# EAGLE library part EDA-003* (library mita-akiba)
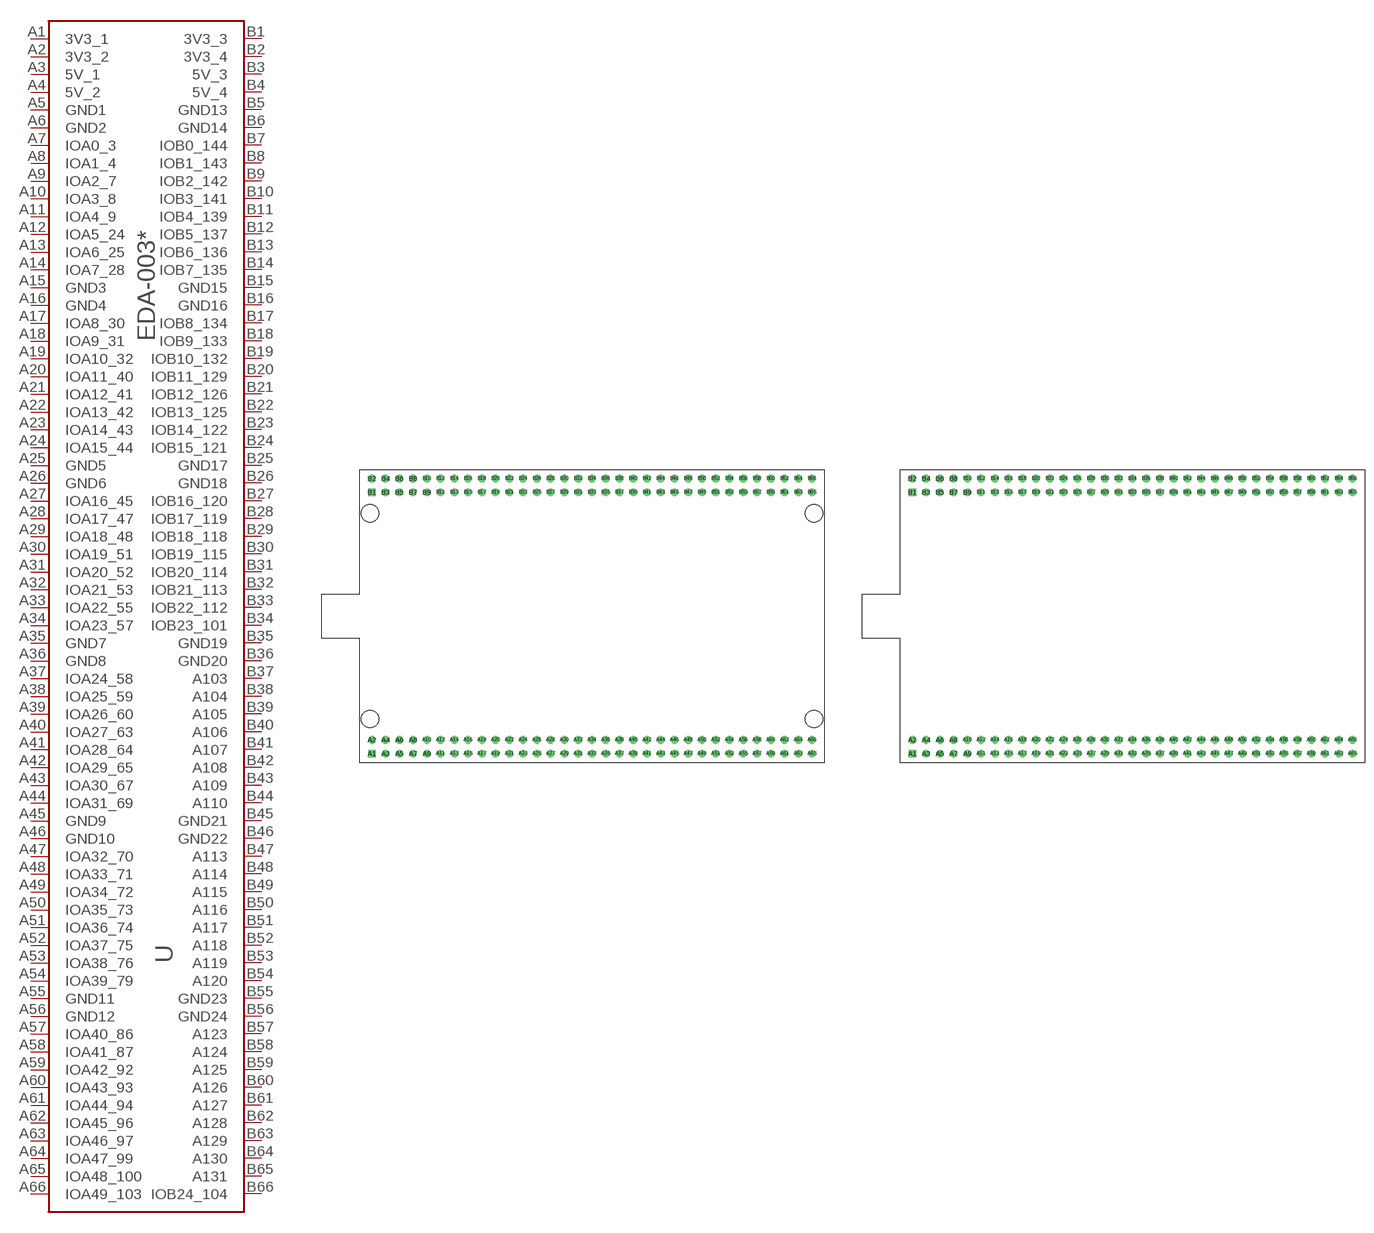
[diagram p41: symbol with the pads of EDA-003; footprints EDA-003, EDA-003NH]

Designator prefix -

## EDA-003  [EDA-003]
A1  3V3_1
A2  3V3_2
A3  5V_1
A4  5V_2
A5  GND1
A6  GND2
A7  IOA0_3
A8  IOA1_4
A9  IOA2_7
A10  IOA3_8
A11  IOA4_9
A12  IOA5_24
A13  IOA6_25
A14  IOA7_28
A15  GND3
A16  GND4
A17  IOA8_30
A18  IOA9_31
A19  IOA10_32
A20  IOA11_40
A21  IOA12_41
A22  IOA13_42
A23  IOA14_43
A24  IOA15_44
A25  GND5
A26  GND6
A27  IOA16_45
A28  IOA17_47
A29  IOA18_48
A30  IOA19_51
A31  IOA20_52
A32  IOA21_53
A33  IOA22_55
A34  IOA23_57
A35  GND7
A36  GND8
A37  IOA24_58
A38  IOA25_59
A39  IOA26_60
A40  IOA27_63
A41  IOA28_64
A42  IOA29_65
A43  IOA30_67
A44  IOA31_69
A45  GND9
A46  GND10
A47  IOA32_70
A48  IOA33_71
A49  IOA34_72
A50  IOA35_73
A51  IOA36_74
A52  IOA37_75
A53  IOA38_76
A54  IOA39_79
A55  GND11
A56  GND12
A57  IOA40_86
A58  IOA41_87
A59  IOA42_92
A60  IOA43_93
A61  IOA44_94
A62  IOA45_96
A63  IOA46_97
A64  IOA47_99
A65  IOA48_100
A66  IOA49_103
B1  3V3_3
B2  3V3_4
B3  5V_3
B4  5V_4
B5  GND13
B6  GND14
B7  IOB0_144
B8  IOB1_143
B9  IOB2_142
B10  IOB3_141
B11  IOB4_139
B12  IOB5_137
B13  IOB6_136
B14  IOB7_135
B15  GND15
B16  GND16
B17  IOB8_134
B18  IOB9_133
B19  IOB10_132
B20  IOB11_129
B21  IOB12_126
B22  IOB13_125
B23  IOB14_122
B24  IOB15_121
B25  GND17
B26  GND18
B27  IOB16_120
B28  IOB17_119
B29  IOB18_118
B30  IOB19_115
B31  IOB20_114
B32  IOB21_113
B33  IOB22_112
B34  IOB23_101
B35  GND19
B36  GND20
B37  A103
B38  A104
B39  A105
B40  A106
B41  A107
B42  A108
B43  A109
B44  A110
B45  GND21
B46  GND22
B47  A113
B48  A114
B49  A115
B50  A116
B51  A117
B52  A118
B53  A119
B54  A120
B55  GND23
B56  GND24
B57  A123
B58  A124
B59  A125
B60  A126
B61  A127
B62  A128
B63  A129
B64  A130
B65  A131
B66  IOB24_104

## EDA-003NH  [EDA-003NH]
Pads as for EDA-003

## Footprint EDA-003 (pad centres in mm)
drill 0.9 square: A1 -40.64,-25.4; B1 -40.64,22.86
drill 0.9: A2 -40.64,-22.86; A3 -38.1,-25.4; A4 -38.1,-22.86; A5 -35.56,-25.4; A6 -35.56,-22.86; A7 -33.02,-25.4; A8 -33.02,-22.86; A9 -30.48,-25.4; A10 -30.48,-22.86; A11 -27.94,-25.4; A12 -27.94,-22.86; A13 -25.4,-25.4; A14 -25.4,-22.86; A15 -22.86,-25.4; A16 -22.86,-22.86; A17 -20.32,-25.4; A18 -20.32,-22.86; A19 -17.78,-25.4; A20 -17.78,-22.86; A21 -15.24,-25.4; A22 -15.24,-22.86; A23 -12.7,-25.4; A24 -12.7,-22.86; A25 -10.16,-25.4; A26 -10.16,-22.86; A27 -7.62,-25.4; A28 -7.62,-22.86; A29 -5.08,-25.4; A30 -5.08,-22.86; A31 -2.54,-25.4; A32 -2.54,-22.86; A33 0,-25.4; A34 0,-22.86; A35 2.54,-25.4; A36 2.54,-22.86; A37 5.08,-25.4; A38 5.08,-22.86; A39 7.62,-25.4; A40 7.62,-22.86; A41 10.16,-25.4; A42 10.16,-22.86; A43 12.7,-25.4; A44 12.7,-22.86; A45 15.24,-25.4; A46 15.24,-22.86; A47 17.78,-25.4; A48 17.78,-22.86; A49 20.32,-25.4; A50 20.32,-22.86; A51 22.86,-25.4; A52 22.86,-22.86; A53 25.4,-25.4; A54 25.4,-22.86; A55 27.94,-25.4; A56 27.94,-22.86; A57 30.48,-25.4; A58 30.48,-22.86; A59 33.02,-25.4; A60 33.02,-22.86; A61 35.56,-25.4; A62 35.56,-22.86; A63 38.1,-25.4; A64 38.1,-22.86; A65 40.64,-25.4; A66 40.64,-22.86; B2 -40.64,25.4; B3 -38.1,22.86; B4 -38.1,25.4; B5 -35.56,22.86; B6 -35.56,25.4; B7 -33.02,22.86; B8 -33.02,25.4; B9 -30.48,22.86; B10 -30.48,25.4; B11 -27.94,22.86; B12 -27.94,25.4; B13 -25.4,22.86; B14 -25.4,25.4; B15 -22.86,22.86; B16 -22.86,25.4; B17 -20.32,22.86; B18 -20.32,25.4; B19 -17.78,22.86; B20 -17.78,25.4; B21 -15.24,22.86; B22 -15.24,25.4; B23 -12.7,22.86; B24 -12.7,25.4; B25 -10.16,22.86; B26 -10.16,25.4; B27 -7.62,22.86; B28 -7.62,25.4; B29 -5.08,22.86; B30 -5.08,25.4; B31 -2.54,22.86; B32 -2.54,25.4; B33 0,22.86; B34 0,25.4; B35 2.54,22.86; B36 2.54,25.4; B37 5.08,22.86; B38 5.08,25.4; B39 7.62,22.86; B40 7.62,25.4; B41 10.16,22.86; B42 10.16,25.4; B43 12.7,22.86; B44 12.7,25.4; B45 15.24,22.86; B46 15.24,25.4; B47 17.78,22.86; B48 17.78,25.4; B49 20.32,22.86; B50 20.32,25.4; B51 22.86,22.86; B52 22.86,25.4; B53 25.4,22.86; B54 25.4,25.4; B55 27.94,22.86; B56 27.94,25.4; B57 30.48,22.86; B58 30.48,25.4; B59 33.02,22.86; B60 33.02,25.4; B61 35.56,22.86; B62 35.56,25.4; B63 38.1,22.86; B64 38.1,25.4; B65 40.64,22.86; B66 40.64,25.4
hole 3.2 at -41,19
hole 3.2 at -41,-19
hole 3.2 at 41,19
hole 3.2 at 41,-19

## Footprint EDA-003NH (pad centres in mm)
drill 0.9 square: A1 -40.64,-25.4; B1 -40.64,22.86
drill 0.9: A2 -40.64,-22.86; A3 -38.1,-25.4; A4 -38.1,-22.86; A5 -35.56,-25.4; A6 -35.56,-22.86; A7 -33.02,-25.4; A8 -33.02,-22.86; A9 -30.48,-25.4; A10 -30.48,-22.86; A11 -27.94,-25.4; A12 -27.94,-22.86; A13 -25.4,-25.4; A14 -25.4,-22.86; A15 -22.86,-25.4; A16 -22.86,-22.86; A17 -20.32,-25.4; A18 -20.32,-22.86; A19 -17.78,-25.4; A20 -17.78,-22.86; A21 -15.24,-25.4; A22 -15.24,-22.86; A23 -12.7,-25.4; A24 -12.7,-22.86; A25 -10.16,-25.4; A26 -10.16,-22.86; A27 -7.62,-25.4; A28 -7.62,-22.86; A29 -5.08,-25.4; A30 -5.08,-22.86; A31 -2.54,-25.4; A32 -2.54,-22.86; A33 0,-25.4; A34 0,-22.86; A35 2.54,-25.4; A36 2.54,-22.86; A37 5.08,-25.4; A38 5.08,-22.86; A39 7.62,-25.4; A40 7.62,-22.86; A41 10.16,-25.4; A42 10.16,-22.86; A43 12.7,-25.4; A44 12.7,-22.86; A45 15.24,-25.4; A46 15.24,-22.86; A47 17.78,-25.4; A48 17.78,-22.86; A49 20.32,-25.4; A50 20.32,-22.86; A51 22.86,-25.4; A52 22.86,-22.86; A53 25.4,-25.4; A54 25.4,-22.86; A55 27.94,-25.4; A56 27.94,-22.86; A57 30.48,-25.4; A58 30.48,-22.86; A59 33.02,-25.4; A60 33.02,-22.86; A61 35.56,-25.4; A62 35.56,-22.86; A63 38.1,-25.4; A64 38.1,-22.86; A65 40.64,-25.4; A66 40.64,-22.86; B2 -40.64,25.4; B3 -38.1,22.86; B4 -38.1,25.4; B5 -35.56,22.86; B6 -35.56,25.4; B7 -33.02,22.86; B8 -33.02,25.4; B9 -30.48,22.86; B10 -30.48,25.4; B11 -27.94,22.86; B12 -27.94,25.4; B13 -25.4,22.86; B14 -25.4,25.4; B15 -22.86,22.86; B16 -22.86,25.4; B17 -20.32,22.86; B18 -20.32,25.4; B19 -17.78,22.86; B20 -17.78,25.4; B21 -15.24,22.86; B22 -15.24,25.4; B23 -12.7,22.86; B24 -12.7,25.4; B25 -10.16,22.86; B26 -10.16,25.4; B27 -7.62,22.86; B28 -7.62,25.4; B29 -5.08,22.86; B30 -5.08,25.4; B31 -2.54,22.86; B32 -2.54,25.4; B33 0,22.86; B34 0,25.4; B35 2.54,22.86; B36 2.54,25.4; B37 5.08,22.86; B38 5.08,25.4; B39 7.62,22.86; B40 7.62,25.4; B41 10.16,22.86; B42 10.16,25.4; B43 12.7,22.86; B44 12.7,25.4; B45 15.24,22.86; B46 15.24,25.4; B47 17.78,22.86; B48 17.78,25.4; B49 20.32,22.86; B50 20.32,25.4; B51 22.86,22.86; B52 22.86,25.4; B53 25.4,22.86; B54 25.4,25.4; B55 27.94,22.86; B56 27.94,25.4; B57 30.48,22.86; B58 30.48,25.4; B59 33.02,22.86; B60 33.02,25.4; B61 35.56,22.86; B62 35.56,25.4; B63 38.1,22.86; B64 38.1,25.4; B65 40.64,22.86; B66 40.64,25.4